# Altium footprint library EEG_PcbLib.PcbLib: 129 footprints (part 1 of 9)
Each footprint in its own frame and in the unit in brackets; x right, y up, seen from the top. Pads: shape width x height; smd on the part's side, far side on the other; paste and mask are expansions set on the pad; w line width, h text height; cw(c..) or ccw(c..) is an arc to the next point about the centre after c.
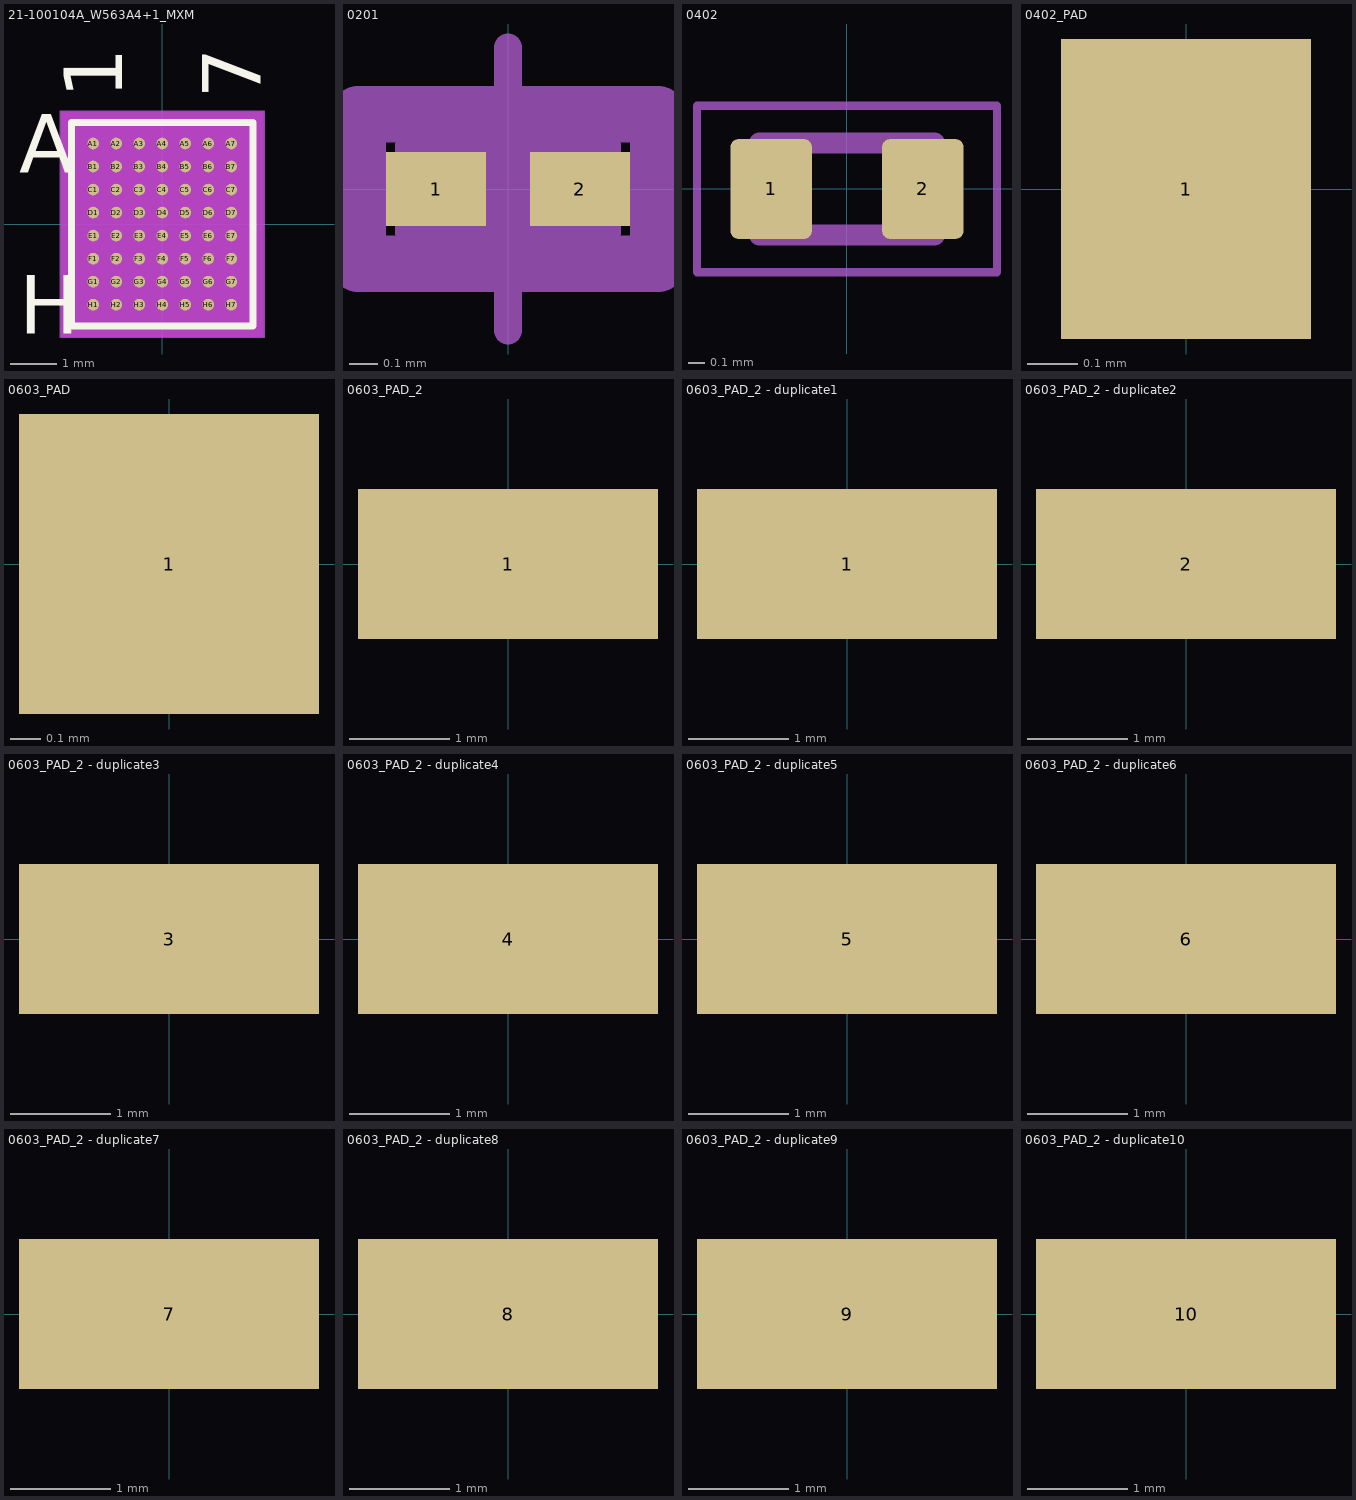
[diagram p0: the footprints below, top view; thin cyan lines are the x and y axes]

## 21-100104A_W563A4+1_MXM [mil]
pads (56):
  round 10 smd paste+0 mask+0: A1(-59.06,68.9) A2(-39.37,68.9) A3(-19.68,68.9) A4(0,68.9) A5(19.68,68.9) A6(39.37,68.9) A7(59.06,68.9) B1(-59.06,49.21) B2(-39.37,49.21) B3(-19.68,49.21) B4(0,49.21) B5(19.68,49.21) B6(39.37,49.21) B7(59.06,49.21) C1(-59.06,29.53) C2(-39.37,29.53) C3(-19.68,29.53) C4(0,29.53) C5(19.68,29.53) C6(39.37,29.53) C7(59.06,29.53) D1(-59.06,9.84) D2(-39.37,9.84) D3(-19.68,9.84) D4(0,9.84) D5(19.68,9.84) D6(39.37,9.84) D7(59.06,9.84) E1(-59.06,-9.84) E2(-39.37,-9.84) E3(-19.68,-9.84) E4(0,-9.84) E5(19.68,-9.84) E6(39.37,-9.84) E7(59.06,-9.84) F1(-59.06,-29.53) F2(-39.37,-29.53) F3(-19.68,-29.53) F4(0,-29.53) F5(19.68,-29.53) F6(39.37,-29.53) F7(59.06,-29.53) G1(-59.06,-49.21) G2(-39.37,-49.21) G3(-19.68,-49.21) G4(0,-49.21) G5(19.68,-49.21) G6(39.37,-49.21) G7(59.06,-49.21) H1(-59.06,-68.9) H2(-39.37,-68.9) H3(-19.68,-68.9) H4(0,-68.9) H5(19.68,-68.9) H6(39.37,-68.9) H7(59.06,-68.9)
Top Overlay:
  lines w6: -77.5,-87 77.5,-87 77.5,87 -77.5,87 -77.5,-87
  text "A" at -122.5,43.9 h50
  text "H" at -122.5,-93.9 h50
  text "1" at -34.06,107 h50
  text "7" at 84.06,107 h50
Bottom Overlay:
  text "A" at -97.5,43.9 h50
  text "H" at -97.5,-93.9 h50
  text "1" at -84.06,107 h50
  text "7" at 34.06,107 h50
Keep-Out Layer:
  region: -86.4,-96.24 -86.4,96.24 86.4,96.24 86.4,-96.24
Mechanical 5:
  region: 87.5,-97 -87.5,-97 -87.5,97 87.5,97
Mechanical 13:
  lines w1: -72.5,72.16 -62.66,82 ; -72.5,-82 72.5,-82 72.5,82 -72.5,82 -72.5,-82
  text "A" at -122.5,43.9 h50
  text "H" at -122.5,-93.9 h50
  text "1" at -34.06,107 h50
  text "7" at 84.06,107 h50
Mechanical 15:
  region: 82.5,-92 -82.5,-92 -82.5,92 82.5,92
  lines w6: -82.5,-92 -82.5,92 82.5,92 82.5,-92 -82.5,-92
3D body "21-100104A_W563A4+1_MXM.step": height 27.09, standoff -0.02, extent -72.52,-82.01 72.52,82.01

## 0201 [mm]
pads (2):
  rect 0.354x0.263 smd paste+0 mask+0: 1(-0.254,0) 2(0.254,0)
Top 3D Body:
  lines w0.2: -0.3,-0.15 0.3,-0.15 0.3,0.15 -0.3,0.15 -0.3,-0.15
Top Assembly:
  lines w0.2: -0.531,-0.265 0.531,-0.265 0.531,0.265 -0.531,0.265 -0.531,-0.265
  text ".Designator" at 0,0.187 h1
Top Courtyard:
  lines w0.2: -0.531,-0.265 0.531,-0.265 0.531,0.265 -0.531,0.265 -0.531,-0.265
Top Component Center:
  lines w0.1: -0.5,0 0.5,0 ; 0,-0.5 0,0.5
3D body "Res_Stackpole_Electronics_RMCF0201JT1K00_eec.STEP": height 0.25, standoff 0, extent -0.531,-0.265 0.531,0.265

## 0402 [mm]
pads (2):
  rrect20% 0.49x0.6 smd: 1(-0.455,0) 2(0.455,0)
Mechanical 13:
  lines w0.127: -0.525,-0.275 -0.525,0.275 0.525,0.275 0.525,-0.275 -0.525,-0.275
Mechanical 15:
  lines w0.05: -0.9,-0.5 -0.9,0.5 0.9,0.5 0.9,-0.5 -0.9,-0.5
3D body "0402.stp": height 0.33, standoff 0.01, extent -0.5,-0.25 0.5,0.25

## 0402_PAD [mm]
pads (1):
  rect 0.5x0.6 smd: 1(0,0)

## 0603_PAD [mm]
pads (1):
  rect 1x1 smd: 1(0,0)

## 0603_PAD_2 [mm]
pads (1):
  rect 3x1.5 smd: 1(0,0)

## 0603_PAD_2 - duplicate1 [mm]
pads (1):
  rect 3x1.5 smd: 1(0,0)

## 0603_PAD_2 - duplicate2 [mm]
pads (1):
  rect 3x1.5 smd: 2(0,0)

## 0603_PAD_2 - duplicate3 [mm]
pads (1):
  rect 3x1.5 smd: 3(0,0)

## 0603_PAD_2 - duplicate4 [mm]
pads (1):
  rect 3x1.5 smd: 4(0,0)

## 0603_PAD_2 - duplicate5 [mm]
pads (1):
  rect 3x1.5 smd: 5(0,0)

## 0603_PAD_2 - duplicate6 [mm]
pads (1):
  rect 3x1.5 smd: 6(0,0)

## 0603_PAD_2 - duplicate7 [mm]
pads (1):
  rect 3x1.5 smd: 7(0,0)

## 0603_PAD_2 - duplicate8 [mm]
pads (1):
  rect 3x1.5 smd: 8(0,0)

## 0603_PAD_2 - duplicate9 [mm]
pads (1):
  rect 3x1.5 smd: 9(0,0)

## 0603_PAD_2 - duplicate10 [mm]
pads (1):
  rect 3x1.5 smd: 10(0,0)